# EAGLE library part MIC5380 (library csandell)
Duel 3.3V Low drop out regulator. Digikey: 576-3453-1-ND
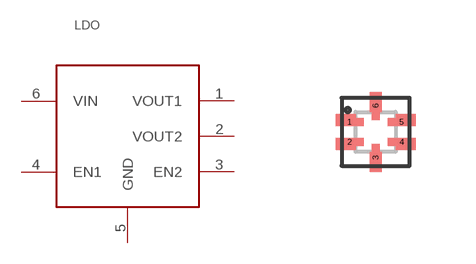
[diagram p1: symbol with the pads of 6-TMLF; footprint 6-TMLF]

Designator prefix LDO

## MIC5380  [6-TMLF]
1  VOUT1  pwr
2  VOUT2  pwr
3  EN2  in
4  EN1  in
5  GND  pwr
6  VIN  pwr

## Footprint 6-TMLF (pad centres in mm)
smd 0.7 x 0.2: 1 -0.65,0.25; 2 -0.65,-0.25; 4 0.65,-0.25; 5 0.65,0.25
smd 0.2 x 0.7: 3 0,-0.65; 6 0,0.65